# Altium footprint library PAL2.PcbLib: 132 footprints (part 2 of 9)
Each footprint in its own frame and in the unit in brackets; x right, y up, seen from the top. Pads: shape width x height; smd on the part's side, far side on the other; paste and mask are expansions set on the pad; w line width, h text height; cw(c..) or ccw(c..) is an arc to the next point about the centre after c.
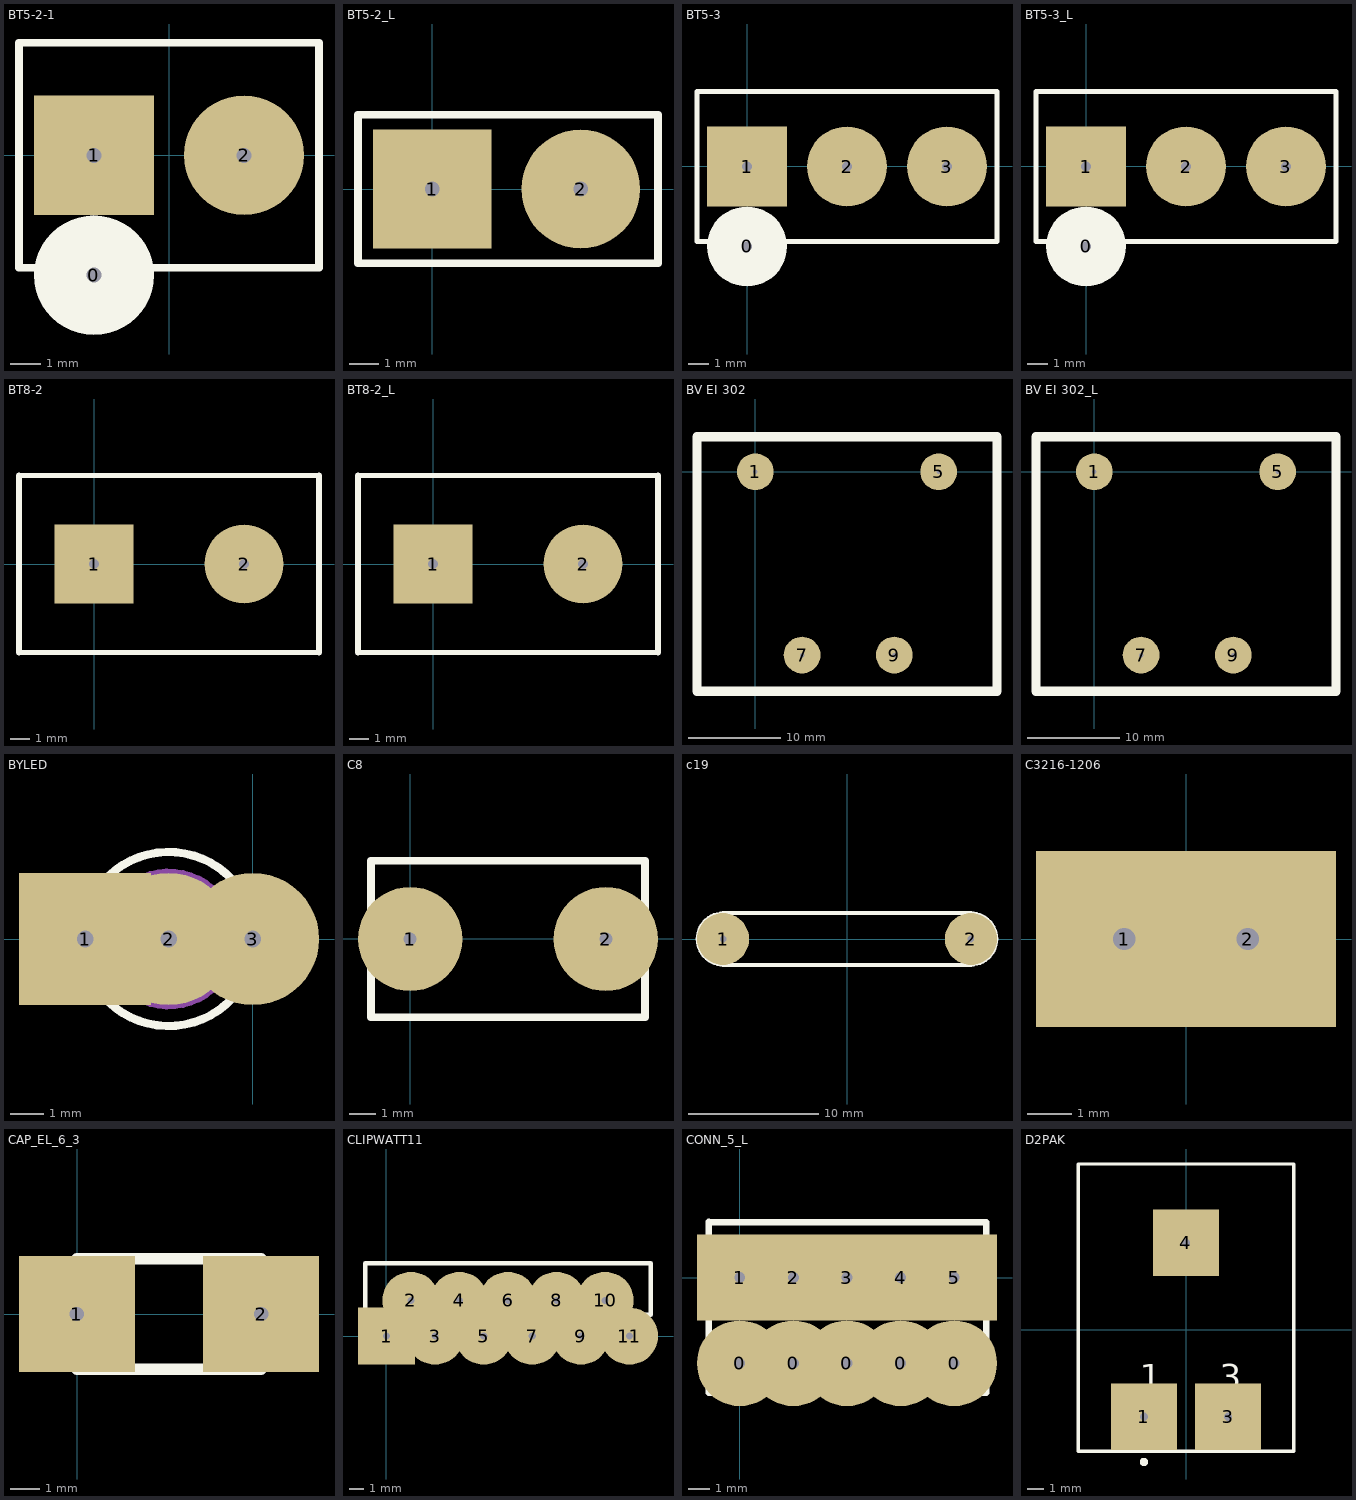
[diagram p1: the footprints below, top view; thin cyan lines are the x and y axes]

## BT5-2-1 [mm]
pads (3):
  round 4 on Top Overlay hole 0.5: 0(-2.5,-4)
  rect 4x4 hole 0.5: 1(-2.5,0)
  round 4 hole 0.5: 2(2.5,0)
Top Overlay:
  lines w0.254: -5,-3.75 5,-3.75 5,3.75 -5,3.75 -5,-3.75

## BT5-2_L [mm]
pads (2):
  rect 4x4 hole 0.5: 1(0.006,0.008)
  round 4 hole 0.5: 2(5.006,0.008)
Top Overlay:
  lines w0.254: -2.494,1.508 -2.494,2.508 7.606,2.508 7.606,-2.492 -2.494,-2.492 -2.494,2.008

## BT5-3 [mm]
pads (4):
  round 4 on Top Overlay hole 0.5: 0(-0.001,-4.001)
  rect 4x4 hole 0.5: 1(-0.001,-0.001)
  round 4 hole 0.5: 2(4.999,-0.001) 3(9.999,-0.001)
Top Overlay:
  lines w0.254: -2.501,1.499 -2.501,2.499 ; -2.501,-3.751 12.499,-3.751 12.499,3.749 -2.501,3.749 -2.501,-3.751

## BT5-3_L [mm]
pads (4):
  round 4 on Top Overlay hole 0.5: 0(-0.001,-4.001)
  rect 4x4 hole 0.5: 1(-0.001,-0.001)
  round 4 hole 0.5: 2(4.999,-0.001) 3(9.999,-0.001)
Top Overlay:
  lines w0.254: -2.501,1.499 -2.501,2.499 ; -2.501,-3.751 12.499,-3.751 12.499,3.749 -2.501,3.749 -2.501,-3.751

## BT8-2 [mm]
pads (2):
  rect 4x4 hole 0.5: 1(-0.006,0.006)
  round 4 hole 0.5: 2(7.614,0.006)
Top Overlay:
  lines w0.254: -3.816,-4.494 11.424,-4.494 ; -3.816,4.506 11.424,4.506
  lines w0.3: -3.816,-4.494 -3.816,4.506 ; 11.424,-4.494 11.424,4.506

## BT8-2_L [mm]
pads (2):
  rect 4x4 hole 0.5: 1(-0.006,0.006)
  round 4 hole 0.5: 2(7.614,0.006)
Top Overlay:
  lines w0.254: -3.816,-4.494 11.424,-4.494 ; -3.816,4.506 11.424,4.506
  lines w0.3: -3.816,-4.494 -3.816,4.506 ; 11.424,-4.494 11.424,4.506

## BV EI 302 [mm]
pads (4):
  round 4 hole 0.5: 1(-0.004,-0.011) 5(19.935,-0.011) 7(5.076,-19.95) 9(15.109,-19.95)
Top Overlay:
  lines w1: -6.354,-23.887 -0.004,-23.887 26.285,-23.887 26.285,3.799 -6.354,3.799 -6.354,-23.887

## BV EI 302_L [mm]
pads (4):
  round 4 hole 0.5: 1(-0.004,-0.011) 5(19.935,-0.011) 7(5.076,-19.95) 9(15.109,-19.95)
Top Overlay:
  lines w1: -6.354,-23.887 -6.354,3.799 26.285,3.799 26.285,-23.887 -0.004,-23.887 -6.354,-23.887

## BYLED [mm]
pads (3):
  rect 4x4 hole 0.5: 1(-5.077,0.007)
  round 4 hole 0.5: 2(-2.552,0.007) 3(-0.002,0.007)
Top Overlay:
  circle w0.254: c-2.552,0.007 r2.633
Mechanical 4:
  circle w0.254: c-2.552,0.007 r2
Mechanical 5:
  circle w0.254: c-2.552,0.007 r2

## C8 [mm]
pads (2):
  round 4 hole 0.5: 1(-0.002,-0.008) 2(7.498,-0.008)
Top Overlay:
  lines w0.3: -1.502,-3.008 8.998,-3.008 8.998,2.992 -1.502,2.992 -1.502,-3.008

## c19 [mm]
pads (2):
  round 4 hole 0.5: 1(-9.5,0) 2(9.5,0)
Top Overlay:
  lines w0.254: -9.5,1.978 ccw(c-9.5,0) -9.475,-1.977 ; 9.475,1.977 cw(c9.5,0) 9.5,-1.978
  lines w0.3: -9.5,-2 9.5,-2 ; -9.5,2 9.5,2

## C3216-1206 [mm]
pads (2):
  rect 4x4 on Top hole 0.5: 1(-1.405,0.002) 2(1.395,0.002)
Top Overlay:
  lines w0.2: -0.705,-1.298 -2.605,-1.298 -2.605,1.302 -0.705,1.302 ; 0.695,-1.298 2.595,-1.298 2.595,1.302 0.695,1.302

## CAP_EL_6_3 [mm]
pads (2):
  rect 4x4 on Top hole 0.5: 1(-0.011,0.006) 2(6.339,0.006)
Top Overlay:
  lines w0.4: 1.259,-1.899 1.259,1.911 ; -0.011,-1.899 -0.011,0.006 -0.011,1.911 6.339,1.911 6.339,-1.899 -0.011,-1.899

## CLIPWATT11 [mm]
pads (11):
  rect 4x4 hole 0.5: 1(0.022,-0.004)
  round 4 hole 0.5: 2(1.722,2.496) 3(3.422,-0.004) 4(5.122,2.496) 5(6.822,-0.004) 6(8.522,2.496) 7(10.222,-0.004) 8(11.922,2.496) 9(13.622,-0.004) 10(15.322,2.496) 11(17.022,-0.004)
Top Overlay:
  lines w0.3: -1.478,1.496 18.522,1.496 18.522,5.096 8.522,5.096 -1.478,5.096 -1.478,1.496

## CONN_5_L [mm]
pads (10):
  round 4 on Top hole 0.5: 0(0,-4) 0(2.5,-4) 0(5,-4) 0(7.5,-4) 0(10,-4)
  rect 4x4 on Top hole 0.5: 1(0,0) 2(2.5,0) 3(5,0) 4(7.5,0) 5(10,0)
Top Overlay:
  lines w0.3: -1.45,2.575 -1.45,-5.375 11.5,-5.375 11.5,2.575 -1.425,2.575 -1.45,2.6

## D2PAK [mm]
pads (3):
  rect 4x4 on Top hole 0.5: 1(-2.557,-5.251) 3(2.523,-5.251) 4(-0.017,5.249)
Top Overlay:
  circle w0.25: c-2.557,-7.976 r0.125
  lines w0.2: -6.517,-7.326 6.483,-7.326 6.483,10 -6.517,10 -6.517,-7.326
  text "3" at 2.015,-3.576 h1.5
  text "1" at -2.807,-3.576 h1.5